# Altium footprint library controller_V1.01.PcbLib: 68 footprints (part 2 of 5)
Each footprint in its own frame and in the unit in brackets; x right, y up, seen from the top. Pads: shape width x height; smd on the part's side, far side on the other; paste and mask are expansions set on the pad; w line width, h text height; cw(c..) or ccw(c..) is an arc to the next point about the centre after c.
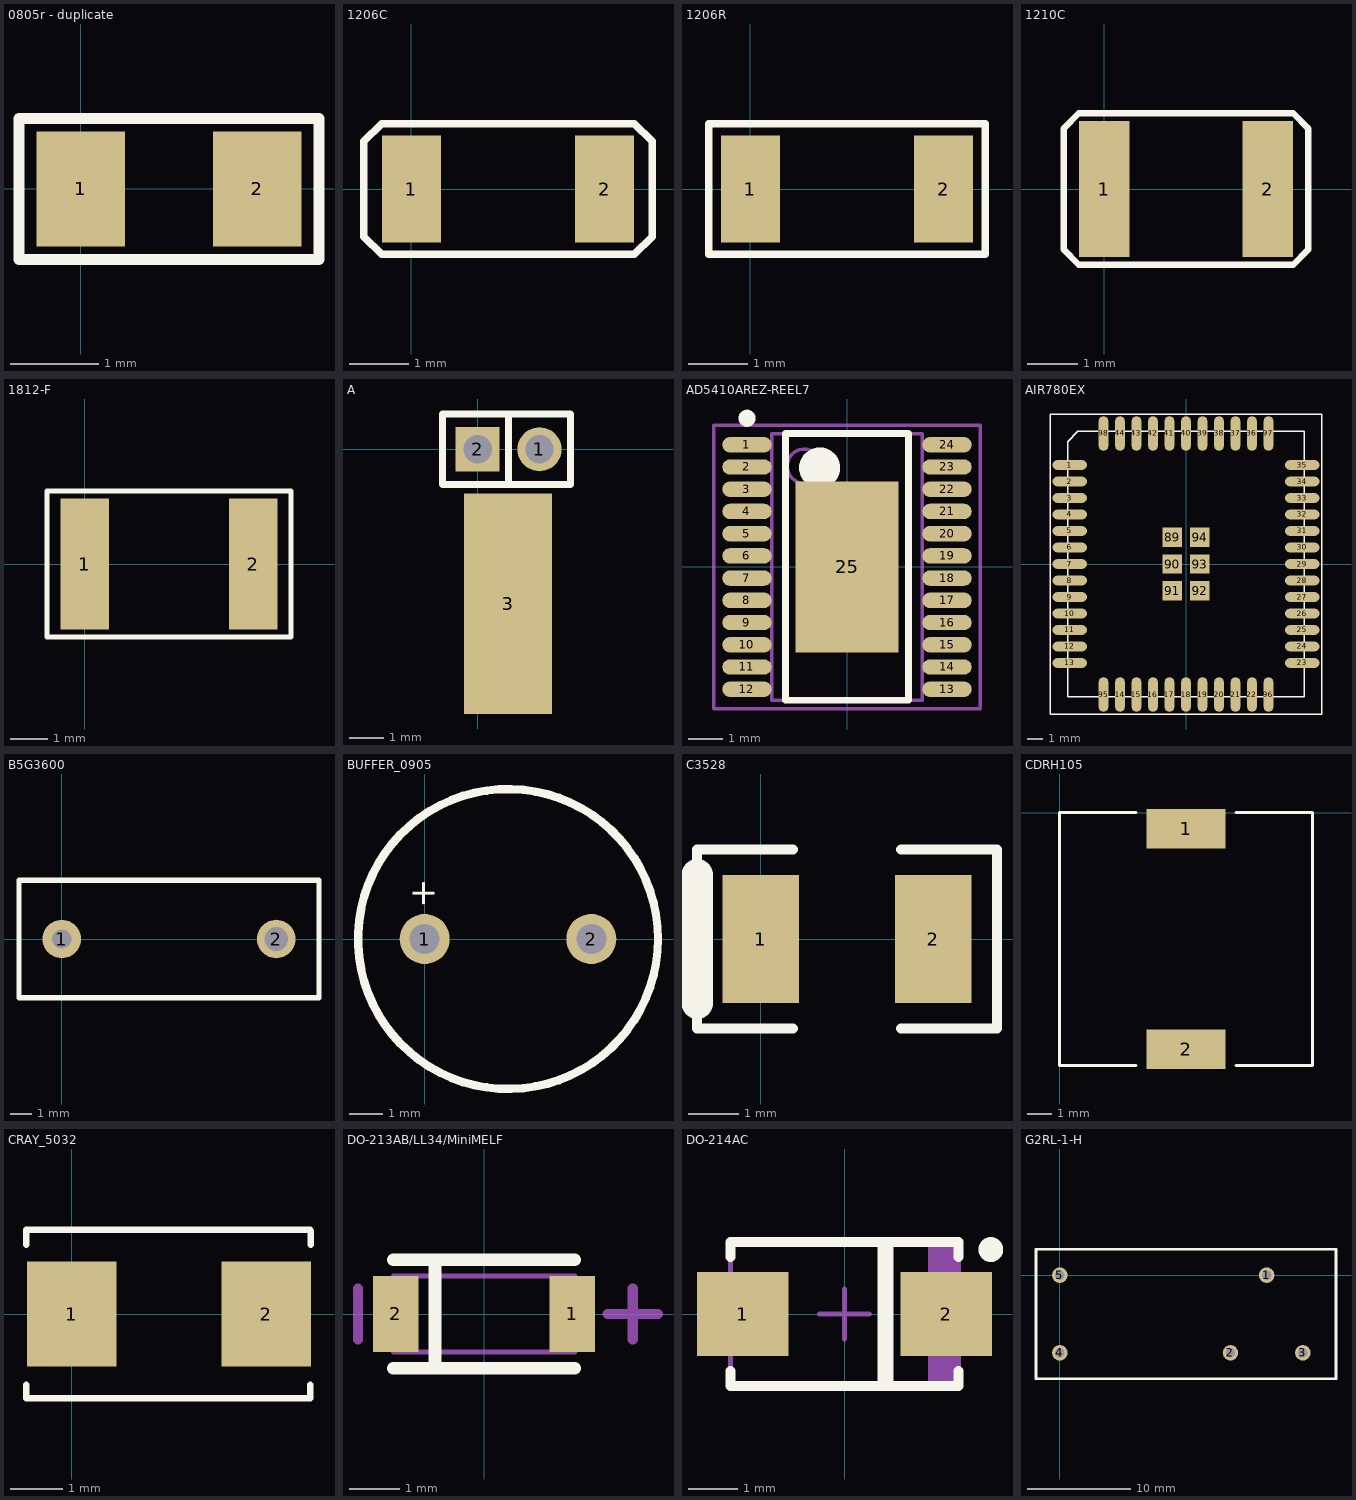
[diagram p1: the footprints below, top view; thin cyan lines are the x and y axes]

## 0805r - duplicate [mm]
pads (2):
  rect 1x1.3 smd: 1(0,0) 2(2,0)
Top Overlay:
  lines w0.127: -0.7,-0.8 2.7,-0.8 2.7,0.8 -0.7,0.8 -0.7,-0.8 ; 2.45,-0.8 2.45,-0.8

## 1206C [mm]
pads (2):
  rect 1x1.8 smd: 1(0,0) 2(3.25,0)
Top Overlay:
  lines w0.127: -0.8,-0.8 -0.5,-1.1 3.75,-1.1 4.05,-0.8 4.05,0.8 3.75,1.1 -0.5,1.1 -0.8,0.8 -0.8,-0.8

## 1206R [mm]
pads (2):
  rect 1x1.8 smd: 1(0,0) 2(3.25,0)
Top Overlay:
  lines w0.127: -0.7,-1.1 -0.7,1.1 3.95,1.1 3.95,-1.1 -0.7,-1.1

## 1210C [mm]
pads (2):
  rect 1x2.7 smd: 1(0,0) 2(3.25,0)
Top Overlay:
  lines w0.127: -0.8,-1.2 -0.8,1.2 -0.5,1.5 3.75,1.5 4.05,1.2 4.05,-1.2 3.75,-1.5 -0.5,-1.5 -0.8,-1.2

## 1812-F [mm]
pads (2):
  rect 1.3x3.5 smd: 1(0,0) 2(4.5,0)
Top Overlay:
  lines w0.127: -1,-1.95 5.5,-1.95 5.5,1.95 -1,1.95 -1,-1.95

## A [mil]
pads (3):
  round 50 hole 32: 1(70,0)
  rect 50x50 hole 32: 2(0,0)
  rect 100x250 smd: 3(34.37,-175)
Top Overlay:
  lines w8: 35,-40 35,40 ; -40,-40 105,-40 105,40 -40,40 -40,-40

## AD5410AREZ-REEL7 [mm] "SOP, 24-Leads, Body 7.8x4.4mm (max), Pitch 0.65mm, IPC Medium Density"
height 2.65
pads (25):
  oval 1.45x0.45 smd: 1(-2.925,3.575) 2(-2.925,2.925) 3(-2.925,2.275) 4(-2.925,1.625) 5(-2.925,0.975) 6(-2.925,0.325) 7(-2.925,-0.325) 8(-2.925,-0.975) 9(-2.925,-1.625) 10(-2.925,-2.275) 11(-2.925,-2.925) 12(-2.925,-3.575) 13(2.925,-3.575) 14(2.925,-2.925) 15(2.925,-2.275) 16(2.925,-1.625) 17(2.925,-0.975) 18(2.925,-0.325) 19(2.925,0.325) 20(2.925,0.975) 21(2.925,1.625) 22(2.925,2.275) 23(2.925,2.925) 24(2.925,3.575)
  rect 3x5 smd: 25(0,0)
Top Overlay:
  circle w0.6: c-0.8,2.9 r0.3
  circle w0.25: c-2.925,4.35 r0.125
  lines w0.2: -1.8,-3.9 1.8,-3.9 1.8,3.9 -1.8,3.9 -1.8,-3.9
Mechanical 13:
  circle w0.1: c-1.25,2.95 r0.5
  lines w0.1: -2.2,-3.9 2.2,-3.9 2.2,3.9 -2.2,3.9 -2.2,-3.9
Mechanical 15:
  lines w0.1: -0.5,0 0.5,0 ; 0,-0.5 0,0.5 ; -3.9,-4.15 3.9,-4.15 3.9,4.15 -3.9,4.15 -3.9,-4.15
3D body: height 2.65, standoff 0.1, extent -2.2,-3.9 2.2,3.9

## AIR780EX [mm]
pads (54):
  oval 2.3x0.65 smd: 1(-7.75,6.6) 2(-7.75,5.5) 3(-7.75,4.4) 4(-7.75,3.3) 5(-7.75,2.2) 6(-7.75,1.1) 7(-7.75,0) 8(-7.75,-1.1) 9(-7.75,-2.2) 10(-7.75,-3.3) 11(-7.75,-4.4) 12(-7.75,-5.5) 13(-7.75,-6.6) 23(7.75,-6.6) 24(7.75,-5.5) 25(7.75,-4.4) 26(7.75,-3.3) 27(7.75,-2.2) 28(7.75,-1.1) 29(7.75,0) 30(7.75,1.1) 31(7.75,2.2) 32(7.75,3.3) 33(7.75,4.4) 34(7.75,5.5) 35(7.75,6.6)
  oval 0.65x2.3 smd: 14(-4.4,-8.7) 15(-3.3,-8.7) 16(-2.2,-8.7) 17(-1.1,-8.7) 18(0,-8.7) 19(1.1,-8.7) 20(2.2,-8.7) 21(3.3,-8.7) 22(4.4,-8.7) 36(4.4,8.7) 37(3.3,8.7) 38(2.2,8.7) 39(1.1,8.7) 40(0,8.7) 41(-1.1,8.7) 42(-2.2,8.7) 43(-3.3,8.7) 44(-4.4,8.7) 95(-5.5,-8.7) 96(5.5,-8.7) 97(5.5,8.7) 98(-5.5,8.7)
  rect 1.3x1.3 smd: 89(-0.9,1.8) 90(-0.9,0) 91(-0.9,-1.8) 92(0.9,-1.8) 93(0.9,0) 94(0.9,1.8)
Top Overlay:
  lines w0.1: -7.9,5.7 -7.9,8.15 -7.2,8.85 7.9,8.85 7.9,-8.85 -7.9,-8.85 -7.9,7.9 ; -9.05,-10 -9.05,10 9.05,10 9.05,-10 -9.05,-10

## B5G3600 [mm]
pads (2):
  round 1.8 hole 0.9: 1(0,0)
  round 1.8 hole 1.1: 2(10,0)
Top Overlay:
  lines w0.254: 11.938,-2.75 -2,-2.75 -2,2.75 12,2.75 12,-2.75

## BUFFER_0905 [mm]
height 1.2
pads (2):
  round 1.5 hole 0.9: 1(0,0) 2(5,0)
Top Overlay:
  circle w0.254: c2.5,0 r4.5
  text "+" at -0.356,1.803 h0.76

## C3528 [mil]
pads (2):
  rect 60x100 smd: 1(0,0) 2(135,0)
Top Overlay:
  lines w8: 25,-70 -50,-70 -50,70 25,70 ; 110,-70 185,-70 185,70 110,70
  lines w25: -50,-50 -50,50

## CDRH105 [mm]
height 11.1
pads (2):
  rect 3.2x1.6 smd: 1(5.1,-0.65) 2(5.1,-9.55)
Top Overlay:
  lines w0.127: 3.088,-10.2 0,-10.2 0,0 3.088,0 ; 7.112,-10.2 10.2,-10.2 10.2,0 7.112,0

## CRAY_5032 [mm]
pads (2):
  rect 1.7x2 smd: 1(0,0) 2(3.7,0)
Top Overlay:
  lines w0.125: -0.864,-1.346 -0.864,-1.6 4.536,-1.6 4.536,-1.346 ; -0.864,1.321 -0.864,1.6 4.536,1.6 ; 4.547,1.321 4.547,1.575

## DO-213AB/LL34/MiniMELF [mm]
pads (2):
  rect 0.9x1.5 smd: 1(1.75,0) 2(-1.75,0)
Top Overlay:
  lines w0.254: -1.8,-1.075 1.8,-1.075 ; -1.8,1.075 1.8,1.075 ; -0.975,-1.075 -0.975,1.075
Mechanical 13:
  lines w0.1: -1.8,-0.75 -1.8,0.75 1.8,0.75 1.8,-0.75 -1.8,-0.75
Mechanical 15:
  lines w0.203: -2.5,-0.5 -2.5,0.5 ; 2.45,0 3.45,0 ; 2.95,-0.5 2.95,0.5

## DO-214AC [mm] "Molded Diode, 2-Leads, Body 4.3x2.7mm, IPC Medium Density"
height 2.438
pads (2):
  rect 1.85x1.7 smd: 1(-2.05,0) 2(2.05,0)
Top Overlay:
  circle w0.25: c2.95,1.3 r0.125
  lines w0.2: -2.3,-1.15 -2.3,-1.45 2.3,-1.45 2.3,-1.15 ; -2.3,1.15 -2.3,1.45 2.3,1.45 2.3,1.15 ; 0.762,-1.397 0.762,1.397 ; 0.889,-1.397 0.889,1.397
Mechanical 13:
  rectangle: 1.681,-1.45 2.3,1.45
  lines w0.1: -2.3,-1.45 -2.3,1.45 2.3,1.45 2.3,-1.45 -2.3,-1.45
Mechanical 15:
  lines w0.1: -0.5,0 0.5,0 ; 0,-0.5 0,0.5
3D body: height 2.44, standoff 0, extent -2.3,-1.45 2.3,1.45

## G2RL-1-H [mm]
pads (5):
  round 1.5 hole 0.9: 1(20,0) 2(16.5,-7.5) 3(23.5,-7.5) 4(0,-7.5) 5(0,0)
Top Overlay:
  lines w0.254: -2.3,-10 -2.3,2.5 26.7,2.5 26.7,-10 -2.3,-10